# EAGLE library part AVR_ISP_CON (library MDB_HOMEBAK)
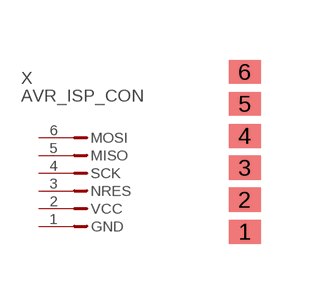
[diagram p10: symbol with the pads of PINHEAD_SMD_6; footprint PINHEAD_SMD_6]

Designator prefix X

## AVR_ISP_CON_MICRO  [PINHEAD_SMD_6]
1  GND
2  VCC
3  NRES
4  SCK
5  MISO
6  MOSI

## Footprint PINHEAD_SMD_6 (pad centres in mm)
smd 0.8 x 0.6: 1 0,0; 2 0,0.8; 3 0,1.6; 4 0,2.4; 5 0,3.2; 6 0,4